# Altium footprint library PCBLibrary.PcbLib: 6 footprints
Each footprint in its own frame and in the unit in brackets; x right, y up, seen from the top. Pads: shape width x height; smd on the part's side, far side on the other; paste and mask are expansions set on the pad; w line width, h text height; cw(c..) or ccw(c..) is an arc to the next point about the centre after c.
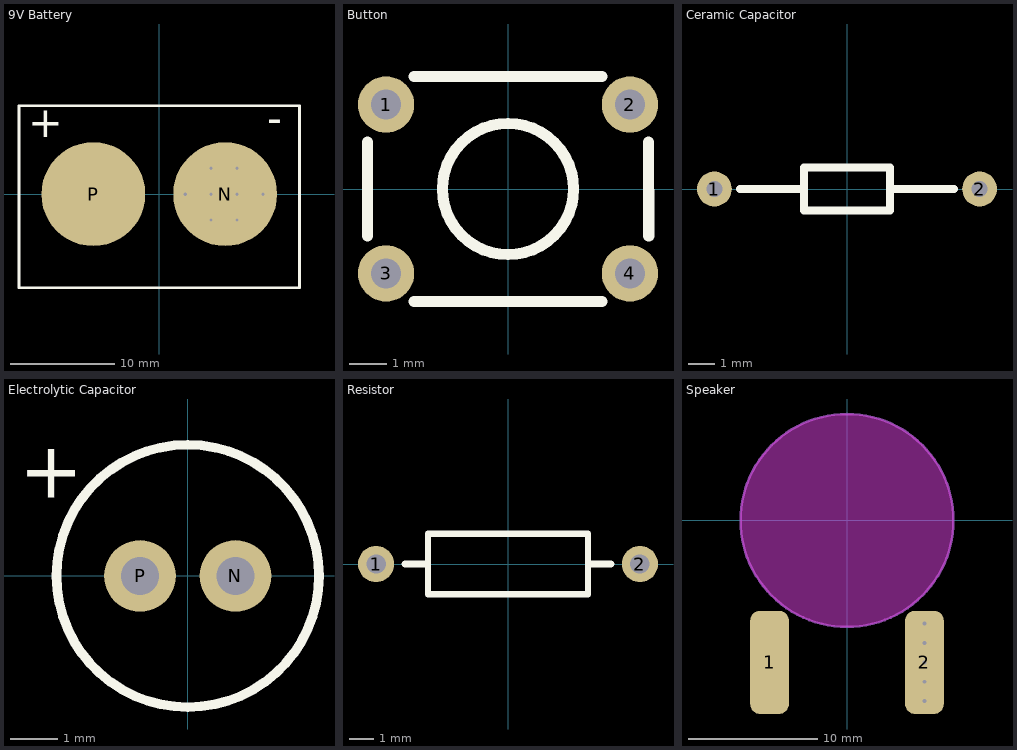
[diagram p0: the footprints below, top view; thin cyan lines are the x and y axes]

## 9V Battery [mm]
pads (2):
  round 10 smd: N(6.35,0) P(-6.35,0)
via 7.5,2.5 diameter 0.6 hole 0.3
via 5,2.5 diameter 0.6 hole 0.3
via 5,-2.5 diameter 0.6 hole 0.3
via 7.5,-2.5 diameter 0.6 hole 0.3
via 10,0 diameter 0.6 hole 0.3
via 7.5,0 diameter 0.6 hole 0.3
via 5,0 diameter 0.6 hole 0.3
via 2.5,0 diameter 0.6 hole 0.3
Top Overlay:
  lines w0.254: -13.5,-9 13.5,-9 13.5,8.5 -13.5,8.5 -13.5,-9
  text "+" at -12.62,4.5 h5
  text "-" at 10.38,5 h5
3D body "Part6.STEP": height 5.7, standoff 0, extent -10.45,-4.1 10.31,4.1

## Button [mm]
pads (4):
  round 1.5 hole 0.8: 1(-3.25,2.25) 2(3.25,2.25) 3(-3.25,-2.25) 4(3.25,-2.25)
Top Overlay:
  circle w0.3: c0,0 r1.75
  lines w0.3: -3.75,-1.25 -3.75,1.25 ; -2.5,-3 2.5,-3 ; -2.5,3 2.5,3 ; 3.75,-1.25 3.75,1.25
3D body "CUI_DEVICES_TS02-66-80-BK-260-SCR-D.STEP": height 4.7, standoff -1.65, extent -3.6,-3 3.6,3

## Ceramic Capacitor [mm]
pads (2):
  round 1.3 hole 0.6: 1(-4.95,0) 2(4.95,0)
Top Overlay:
  lines w0.3: 4,0 1.6,0 ; -1.6,0 -4,0 -1.6,0 ; -1.6,0 -1.6,0.8 -0.6,0.8 1.6,0.8 1.6,0 ; -1.6,0 -1.6,-0.8 -0.6,-0.8 1.6,-0.8 1.6,0
3D body "Part4.STEP": height 2.67, standoff -1.38, extent -5.16,-1.27 5.16,1.27

## Electrolytic Capacitor [mm]
pads (2):
  round 1.5 hole 0.8: N(1,0) P(-1,0)
Top Overlay:
  circle w0.2: c0,0 r2.75
  text "+" at -3.536,1.25 h2
3D body "Part5.STEP": height 11.2, standoff -1.6, extent -2.5,-2.5 2.5,2.5

## Resistor [mm]
pads (2):
  round 1.5 hole 0.8: 1(-5.461,0) 2(5.461,0)
Top Overlay:
  lines w0.254: -3.313,-1.25 3.313,-1.25 3.313,1.25 -3.313,1.25 -3.313,-1.25
  lines w0.3: -4.25,0 -3.4,0 ; 3.4,0 4.25,0
3D body "MFR-25FBF52-47K5.STEP": height 2.6, standoff -2.52, extent -5.775,-1.3 5.775,1.3

## Speaker [mm]
pads (2):
  rrect50% 3x8 smd: 1(-6,-11) 2(6,-11)
via 6,-14 diameter 0.6 hole 0.3
via 6,-12.5 diameter 0.6 hole 0.3
via 6,-11 diameter 0.6 hole 0.3
via 6,-9.5 diameter 0.6 hole 0.3
via 6,-8 diameter 0.6 hole 0.3
Keep-Out Layer:
  board cut-out: 0,-8.25 -0.405,-8.25 -1.212,-8.171 -2.007,-8.012 -2.783,-7.777 -3.532,-7.467 -4.246,-7.085 -4.92,-6.634 -5.547,-6.12 -6.12,-5.547 -6.634,-4.92 -7.085,-4.246 -7.467,-3.532 -7.777,-2.783 -8.012,-2.007 -8.171,-1.212 -8.25,-0.405 -8.25,0 -8.25,0.405 -8.171,1.212 -8.012,2.007 -7.777,2.783 -7.467,3.532 -7.085,4.246 -6.634,4.92 -6.12,5.547 -5.547,6.12 -4.92,6.634 -4.246,7.085 -3.532,7.467 -2.783,7.777 -2.007,8.012 -1.212,8.171 -0.405,8.25 0,8.25 0.405,8.25 1.212,8.171 2.007,8.012 2.783,7.777 3.532,7.467 4.246,7.085 4.92,6.634 5.547,6.12 6.12,5.547 6.634,4.92 7.085,4.246 7.467,3.532 7.777,2.783 8.012,2.007 8.171,1.212 8.25,0.405 8.25,0 8.25,-0.405 8.171,-1.212 8.012,-2.007 7.777,-2.783 7.467,-3.532 7.085,-4.246 6.634,-4.92 6.12,-5.547 5.547,-6.12 4.92,-6.634 4.246,-7.085 3.532,-7.467 2.783,-7.777 2.007,-8.012 1.212,-8.171 0.405,-8.25
Mechanical 1:
  circle w0.2: c0,0 r8.25
3D body "Part3.STEP": height 4, standoff -1, extent -11.5,-11.5 11.5,11.5